# EAGLE library part APA102 (library weblight)
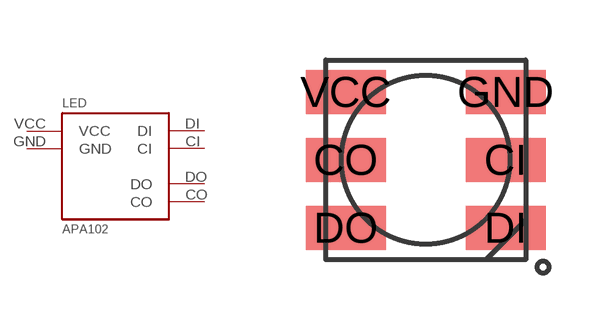
[diagram p0: symbol with the pads of APA102; footprint APA102]

Designator prefix LED

## APA102  [APA102]
CI  CI  in
CO  CO  out
DI  DI  in
DO  DO  out
GND  GND  pwr
VCC  VCC  pwr

## Footprint APA102 (pad centres in mm)
smd 2 x 1.1: CI 2,0; CO -2,0; DI 2,-1.7; DO -2,-1.7; GND 2,1.7; VCC -2,1.7